# Altium footprint library DieuKhienTuXa.PcbLib: 32 footprints (part 1 of 2)
Each footprint in its own frame and in the unit in brackets; x right, y up, seen from the top. Pads: shape width x height; smd on the part's side, far side on the other; paste and mask are expansions set on the pad; w line width, h text height; cw(c..) or ccw(c..) is an arc to the next point about the centre after c.
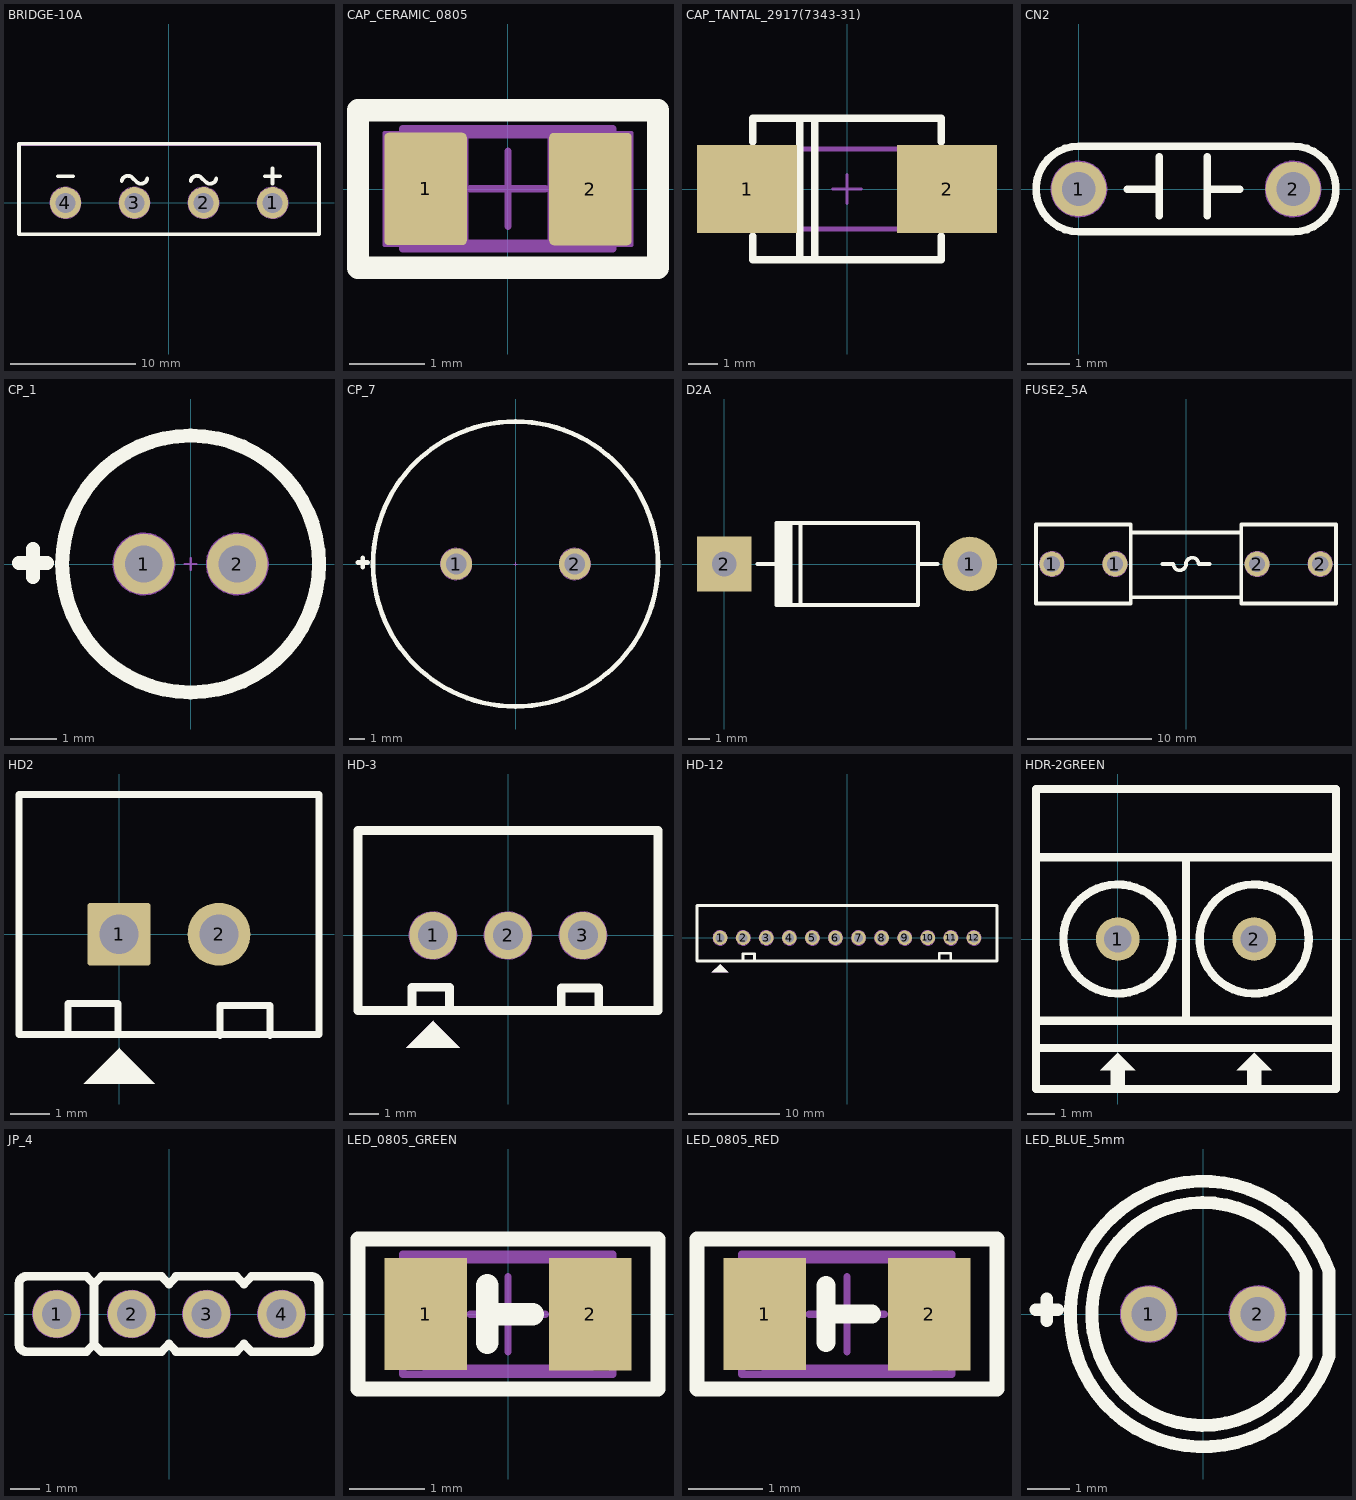
[diagram p0: the footprints below, top view; thin cyan lines are the x and y axes]

## BRIDGE-10A [mm] "KBU1000-KBU1010"
height 19.3
pads (4):
  round 2.5 hole 1.6 unplated mask+0.1: 1(8.25,0) 2(2.75,0) 3(-2.75,0) 4(-8.25,0)
Top Overlay:
  lines w0.3: -8.85,2.125 -7.65,2.125 ; -3.767,1.74 cw(c-3.275,1.65) -2.913,1.995 ; -2.913,1.988 -2.6,1.675 -2.584,1.675 ccw(c-2.222,2.02) -1.731,1.931 ; 1.733,1.74 cw(c2.225,1.65) 2.587,1.995 ; 2.587,1.988 2.9,1.675 2.916,1.675 ccw(c3.278,2.02) 3.769,1.931 ; 7.65,2.125 8.85,2.125 ; 8.25,1.525 8.25,2.725 ; -11.95,-2.5 -11.95,4.7 11.95,4.7 11.95,-2.5 -11.95,-2.5
Mechanical 1:
  circle w0.05: c8.25,0 r1.25
  circle w0.05: c2.75,0 r1.25
  circle w0.05: c-2.75,0 r1.25
  circle w0.05: c-8.25,0 r1.25
  lines w0.05: -8.85,2.125 -7.65,2.125 ; -3.767,1.74 cw(c-3.275,1.65) -2.913,1.995 ; -2.913,1.988 -2.6,1.675 -2.584,1.675 ccw(c-2.222,2.02) -1.731,1.931 ; 1.733,1.74 cw(c2.225,1.65) 2.587,1.995 ; 2.587,1.988 2.9,1.675 2.916,1.675 ccw(c3.278,2.02) 3.769,1.931 ; 7.65,2.125 8.85,2.125 ; 8.25,1.525 8.25,2.725 ; -11.825,-2.425 11.9,-2.425 11.9,4.6 -11.825,4.6 -11.825,-2.425
  text "1" at 8.125,-0.375 h0.76
  text "2" at 2.542,-0.375 h0.76
  text "3" at -3.042,-0.375 h0.76
  text "4" at -8.625,-0.375 h0.76
3D body "User Library-KBU1010.step": height 26.74, standoff -20.96, extent -11.807,-2.4 11.907,4.701

## CAP_CERAMIC_0805 [mm] "Chip Capacitor, Body 2.0x1.3mm, IPC High Density"
height 1.1
pads (2):
  rrect10% 1.1x1.5 smd: 1(-1.1,0) 2(1.1,0)
Top Overlay:
  lines w0.3: -2,-1.05 2,-1.05 2,1.05 -2,1.05 -2,-1.05
Mechanical 1:
  lines w0.05: -2,-1 2,-1 2,1 -2,1 -2,-1 ; -1.65,-0.75 -0.55,-0.75 -0.55,0.75 -1.65,0.75 -1.65,-0.75 ; 0.55,-0.75 1.65,-0.75 1.65,0.75 0.55,0.75 0.55,-0.75
  text "1" at -1.225,-0.375 h0.76
  text "2" at 0.85,-0.4 h0.76
Mechanical 13:
  lines w0.1: -1.1,-0.725 1.1,-0.725 1.1,0.725 -1.1,0.725 -1.1,-0.725
Mechanical 15:
  lines w0.1: -0.5,0 0.5,0 ; 0,-0.5 0,0.5 ; -1.4,-0.8 1.4,-0.8 1.4,0.8 -1.4,0.8 -1.4,-0.8
3D body "User Library-Chip Cap_MLCC_0805 (2012)_A.step": height 0.6, standoff 0, extent -1,-0.622 1,0.628

## CAP_TANTAL_2917(7343-31) [mm] "Chip Resistor, Body 6.0x3.2mm, IPC High Density"
height 0.9
pads (2):
  rect 3.4x3 smd: 1(-3.4,0) 2(3.4,0)
Top Overlay:
  lines w0.254: -3.2,-1.6 -3.2,-2.413 3.2,-2.413 3.2,-1.6 ; -3.2,1.6 -3.2,2.413 3.2,2.413 3.2,1.6 ; -1.6,-2.413 -1.6,2.413 ; -1.1,-2.413 -1.1,2.4
Mechanical 13:
  lines w0.1: -2.575,-1.325 -2.575,1.325 2.575,1.325 2.575,-1.325 -2.575,-1.325
Mechanical 15:
  lines w0.1: -0.5,0 0.5,0 ; 0,-0.5 0,0.5 ; -2.9,-1.4 -2.9,1.4 2.9,1.4 2.9,-1.4 -2.9,-1.4
3D body "User Library-CAP_TANT_7343-31.step": height 3.1, standoff 0, extent -3.8,-2.3 3.8,2.3

## CN2 [mm]
height 5.08
pads (2):
  round 1.3 hole 0.8 mask+0.1: 1(0,0) 2(5.08,0)
Top Overlay:
  lines w0.178: 1.143,0 1.905,0 ; 1.905,-0.635 1.905,0.762 ; 3.048,-0.635 3.048,0.762 ; 3.048,0 3.81,0 ; 0,-1.016 cw(c0,0) 0,1.016 5.08,1.016 cw(c5.08,0) 5.08,-1.016 0,-1.016
Mechanical 1:
  circle w0.05: c0,0 r0.65
  circle w0.05: c5.08,0 r0.65
  lines w0.05: 1.143,0 1.905,0 ; 1.905,-0.635 1.905,0.762 ; 3.048,-0.635 3.048,0.762 ; 3.048,0 3.81,0 ; 0,-1.016 cw(c0,0) 0,1.016 5.08,1.016 cw(c5.08,0) 5.08,-1.016 0,-1.016
  text "2" at 4.825,-0.325 h0.76
  text "1" at -0.125,-0.35 h0.76
3D body "User Library-0,1uF Capacitor 5,08 mm.step": height 6.08, standoff -2.31, extent -0.19,-1.01 5.39,1.2

## CP_1 [mm] "2pin_2mm,DxdxF 5x0.5x2mm"
height 12
pads (2):
  round 1.3 hole 0.8 mask+0.1: 1(-1,0) 2(1,0)
Top Overlay:
  circle w0.3: c0,0 r2.75
  lines w0.3: -3.675,0.025 -3.075,0.025 ; -3.375,-0.275 -3.375,0.325
Mechanical 1:
  circle w0.05: c0,0 r2.75
  circle w0.05: c1,0 r0.65
  circle w0.05: c-1,0 r0.65
  lines w0.05: -3.675,0.025 -3.075,0.025 ; -3.375,-0.275 -3.375,0.325
  text "2" at 0.775,-0.35 h0.76
  text "1" at -1.125,-0.35 h0.76
Mechanical 15:
  lines w0.05: -0.125,0 0.125,0 ; 0,-0.125 0,0.125
3D body "User Library-CAPAE200P550X1200_VERT.step": height 12, standoff -1.78, extent -2.751,-2.75 2.75,2.751

## CP_7 [mm] "2pin_7.5mm,DxdxF 18x0.8x7.5mm"
height 35.5
pads (2):
  round 2 hole 1.3 mask+0.1: 1(-3.75,0) 2(3.75,0)
Top Overlay:
  circle w0.3: c0,0 r9
  lines w0.3: -9.95,0.1 -9.35,0.1 ; -9.65,-0.2 -9.65,0.4
Mechanical 1:
  circle w0.05: c0,0 r9
  circle w0.05: c3.75,0 r1
  circle w0.05: c-3.75,0 r1
  lines w0.05: -9.95,0.1 -9.35,0.1 ; -9.65,-0.2 -9.65,0.4
  text "2" at 3.5,-0.35 h0.76
  text "1" at -3.875,-0.35 h0.76
Mechanical 15:
  lines w0.05: -0.125,0 0.125,0 ; 0,-0.125 0,0.125
3D body "User Library-CE 16x31x7_5.step": height 31, standoff -8, extent -8,-8.05 8,7.95

## D2A [mil] "Diode 2A, W 150mil, L 450mil"
height 100
pads (2):
  round 100 hole 45: 1(450,0)
  rect 100x100 hole 45: 2(0,0)
Top Overlay:
  rectangle: 95,-75 125,75
  lines w7: 61,0 96,0 ; 96,-31 96,0 ; 96,32 96,0 ; 140,-75 140,75 ; 355,0 391,0 ; 96,-75 96,75 355,75 355,-75 96,-75
3D body "SW3DPS-DIODE0_4-DEFAULT.STEP": height 100.5, standoff -100, extent 5,-47 435,54

## FUSE2_5A [mm] "Fuse 2.5A  250V"
height 1
pads (4):
  round 2 hole 1.3: 1(-10.795,0) 1(-5.715,0) 2(5.715,0) 2(10.795,0)
Top Overlay:
  lines w0.3: -4.445,-2.667 4.445,-2.667 ; -4.445,2.54 4.445,2.54 ; -1.905,0 -1.016,0 ccw(c-0.508,0) 0,0 cw(c0.508,0) 1.016,0 1.905,0 ; -12.065,-3.175 -12.065,3.175 -4.445,3.175 -4.445,-3.175 -12.065,-3.175 ; 4.445,-3.175 12.065,-3.175 12.065,3.175 4.445,3.175 4.445,-3.175
Mechanical 1:
  circle w0.05: c-10.795,0 r1
  circle w0.05: c-5.715,0 r1
  circle w0.05: c5.715,0 r1
  circle w0.05: c10.795,0 r1
  lines w0.05: -4.445,-2.667 4.445,-2.667 ; -4.445,2.54 4.445,2.54 ; -12.065,-3.175 -4.445,-3.175 -4.445,3.175 -12.065,3.175 -12.065,-3.175 ; 4.445,-3.175 12.065,-3.175 12.065,3.175 4.445,3.175 4.445,-3.175
3D body "SW3dPS-Fuse Small 1A.STEP": height 9.41, standoff 4.31, extent -9.774,-2.489 9.926,2.611
3D body "SW3dPS-Fuse Leg_2009.STEP": height 9.6, standoff -3.3, extent -11.296,-3.09 -5.2,3.1
3D body "SW3dPS-Fuse Leg_2009.STEP": height 9.6, standoff -3.3, extent 5.304,-3.09 11.4,3.1

## HD2 [mm] "Header_2"
height 5.08
pads (2):
  rrect10% 1.6x1.6 hole 1 mask+0.1: 1(0,0)
  round 1.6 hole 1 mask+0.1: 2(2.54,0)
Top Overlay:
  region: -0.902,-3.797 0.902,-3.797 0.013,-2.908 0.013,-2.883
  lines w0.178: -1.295,-2.515 -1.295,-1.753 -0.025,-1.753 -0.025,-2.515 ; 2.565,-2.565 2.565,-1.803 3.835,-1.803 3.835,-2.565 ; -2.54,-2.54 -2.54,3.556 5.08,3.556 5.08,-2.54 -2.54,-2.54
3D body "User Library-PCB HEADER (JST BxB-PH-K-S (VERTICAL)).STEP": height 6, standoff -1.91, extent -1.8,-1.65 4.2,2.85

## HD-3 [mm] "CON 3"
height 5.08
pads (3):
  round 1.6 hole 1 mask+0.1: 1(-2.54,0) 2(0,0) 3(2.54,0)
Top Overlay:
  region: -3.442,-3.797 -1.638,-3.797 -2.527,-2.908 -2.527,-2.883
  lines w0.3: -3.251,-2.515 -3.251,-1.753 -1.981,-1.753 -1.981,-2.515 ; 1.803,-2.54 1.803,-1.778 3.073,-1.778 3.073,-2.54 ; -5.08,-2.54 -5.08,3.556 5.08,3.556 5.08,0 5.08,-2.54 -5.08,-2.54
Mechanical 1:
  circle w0.05: c2.54,0 r0.8
  circle w0.05: c0,0 r0.8
  circle w0.05: c-2.54,0 r0.8
  region: -3.442,-3.797 -1.638,-3.797 -2.527,-2.908 -2.527,-2.883
  lines w0.05: -3.251,-2.515 -3.251,-1.753 -1.981,-1.753 -1.981,-2.515 ; 1.803,-2.54 1.803,-1.778 3.073,-1.778 3.073,-2.54 ; -5.08,-2.54 5.08,-2.54 5.08,0 5.08,3.556 -5.08,3.556 -5.08,-2.54
  text "3" at 2.2,-0.5 h0.76
  text "1" at -2.7,-0.5 h0.76
3D body "User Library-PW10_3.step": height 7, standoff -3.3, extent -5,-2.286 5,3.414

## HD-12 [mm] "CON12"
height 5.08
pads (12):
  round 1.6 hole 1 mask+0.1: 1(-13.97,0) 2(-11.43,0) 3(-8.89,0) 4(-6.35,0) 5(-3.81,0) 6(-1.27,0) 7(1.27,0) 8(3.81,0) 9(6.35,0) 10(8.89,0) 11(11.43,0) 12(13.97,0)
Top Overlay:
  region: -14.872,-3.797 -13.068,-3.797 -13.957,-2.908 -13.957,-2.883
  lines w0.3: -11.455,-2.515 -11.455,-1.753 -10.185,-1.753 -10.185,-2.515 ; 10.16,-2.464 10.16,-1.702 11.43,-1.702 11.43,-2.464 ; -16.51,-2.54 -16.51,3.556 16.51,3.556 16.51,0 16.51,-2.54 -16.51,-2.54
Mechanical 1:
  circle w0.05: c-13.97,0 r0.8
  circle w0.05: c-11.43,0 r0.8
  circle w0.05: c-8.89,0 r0.8
  circle w0.05: c-6.35,0 r0.8
  circle w0.05: c-3.81,0 r0.8
  circle w0.05: c-1.27,0 r0.8
  circle w0.05: c1.27,0 r0.8
  circle w0.05: c3.81,0 r0.8
  circle w0.05: c6.35,0 r0.8
  circle w0.05: c8.89,0 r0.8
  circle w0.05: c11.43,0 r0.8
  circle w0.05: c13.97,0 r0.8
  region: -14.872,-3.797 -13.068,-3.797 -13.957,-2.908 -13.957,-2.883
  lines w0.05: -11.455,-2.515 -11.455,-1.753 -10.185,-1.753 -10.185,-2.515 ; 10.16,-2.464 10.16,-1.702 11.43,-1.702 11.43,-2.464 ; -16.51,-2.54 -16.51,3.556 16.51,3.556 16.51,0 16.51,-2.54 -16.51,-2.54
  text "1" at -14.1,-0.5 h0.76
  text "12" at 13.2,-0.5 h0.76
3D body "User Library-PW10_12.step": height 7, standoff -3.3, extent -16.3,-2.286 16.3,3.414

## HDR-2GREEN [mm] "10A PIN TO PIN 5mm 11mmx11mm"
pads (2):
  round 1.6 hole 1 mask+0.1: 1(0,0) 2(5,0)
Top Overlay:
  circle w0.3: c5,0 r2
  circle w0.3: c0,0 r2
  region: 5,-4.171 4.365,-4.806 4.746,-4.806 4.746,-5.441 5.254,-5.441 5.254,-4.806 5.635,-4.806
  region: 0,-4.171 -0.635,-4.806 -0.254,-4.806 -0.254,-5.441 0.254,-5.441 0.254,-4.806 0.635,-4.806
  lines w0.3: -3,-4 8,-4 ; -3,-3 8,-3 ; -3,3 8,3 ; 2.5,-3 2.5,3 ; -3,-5.5 -3,5.5 8,5.5 8,-5.5 -3,-5.5
3D body "STB01.step": height 12.5, standoff -4.4, extent -3.14,-4.047 2.54,4.953
3D body "STB01.step": height 12.5, standoff -4.4, extent 1.94,-4.047 7.62,4.953

## JP_4 [mm] "Connector DIP, 4Pin_2.54mm"
height 5
pads (4):
  round 1.6 hole 1 mask+0.1: 1(-3.81,0) 2(-1.27,0) 3(1.27,0) 4(3.81,0)
Top Overlay:
  lines w0.3: -2.794,-1.28 -2.794,-1.27 ; -2.794,1.27 -2.54,1.016 ; -2.794,1.28 -4.84,1.28 ccw(c-4.82,1.02) -5.08,1 -5.08,-1 ccw(c-4.82,-1.02) -4.84,-1.28 -2.804,-1.28 -2.794,-1.27 ; -2.286,1.27 -2.54,1.016 ; -2.286,1.28 -0.254,1.28 -0.254,1.27 0,1.016 0.254,1.27 ; 0.24,-1.28 2.276,-1.28 2.286,-1.27 ; 0.24,1.28 2.286,1.28 ; 0.254,-1.27 0,-1.016 -0.254,-1.27 -0.254,-1.28 -2.286,-1.28 -2.54,-1.026 ; 2.286,-1.28 2.286,-1.27 ; 2.286,1.27 2.54,1.016 2.794,1.27 ; 2.794,1.28 4.826,1.28 4.826,1.27 ; 4.8,-1.28 ccw(c4.8,-1) 5.08,-1 5.08,1 ccw(c4.8,1) 4.8,1.28 ; 4.826,-1.27 4.826,-1.28 2.794,-1.28 2.54,-1.026 2.54,-1.016 2.286,-1.27 ; -2.794,-1.27 -2.54,-1.016 -2.54,-1.026 ; -2.54,-1.026 -2.54,1.016
Mechanical 1:
  circle w0.05: c-3.81,0 r0.8
  circle w0.05: c-3.81,0 r0.8
  circle w0.05: c-1.27,0 r0.8
  circle w0.05: c1.27,0 r0.8
  circle w0.05: c3.81,0 r0.8
  lines w0.05: -2.794,-1.28 -2.794,-1.27 ; -2.794,1.27 -2.54,1.016 -2.286,1.27 ; -2.794,1.28 -4.84,1.28 ccw(c-4.82,1.02) -5.08,1 -5.08,-1 ccw(c-4.82,-1.02) -4.84,-1.28 -2.804,-1.28 -2.794,-1.27 ; -2.286,1.28 -0.254,1.28 -0.254,1.27 0,1.016 0.254,1.27 ; 0.24,-1.28 2.276,-1.28 2.286,-1.27 ; 0.24,1.28 2.286,1.28 ; 0.254,-1.27 0,-1.016 -0.254,-1.27 -0.254,-1.28 -2.286,-1.28 -2.54,-1.026 -2.54,-1.016 -2.794,-1.27 ; 2.286,-1.28 2.286,-1.27 ; 2.286,1.27 2.54,1.016 2.794,1.27 ; 2.54,-1.026 2.794,-1.28 4.826,-1.28 4.826,-1.27 ; 2.54,-1.016 2.286,-1.27 ; 2.794,1.28 4.826,1.28 4.826,1.27 ; 4.8,-1.28 ccw(c4.8,-1) 5.08,-1 5.08,1 ccw(c4.8,1) 4.8,1.28
  text "4" at 3.556,-0.254 h0.76
  text "1" at -4.064,-0.254 h0.76
3D body "Header 1x4.STEP": height 10.1, standoff -1.5, extent -5.08,-1.27 5.08,1.27

## LED_0805_GREEN [mm] "Chip Resistor; Body 2.0 x 1.3 mm (LxW typ)"
height 2.54
pads (2):
  rect 1.1x1.5 smd: 1(-1.1,0) 2(1.1,0)
Top Overlay:
  lines w0.2: -2,-1 -2,1 2,1 2,-1 -2,-1
  lines w0.3: -0.279,-0.381 -0.279,0.381 ; -0.279,0 0.33,0
Mechanical 13:
  lines w0.1: -1.1,-0.725 1.1,-0.725 1.1,0.725 -1.1,0.725 -1.1,-0.725
Mechanical 15:
  lines w0.1: -0.5,0 0.5,0 ; 0,-0.5 0,0.5 ; -1.4,-0.8 1.4,-0.8 1.4,0.8 -1.4,0.8 -1.4,-0.8
3D body "User Library-led_0805-green.step": height 1.1, standoff 0, extent -1.01,-0.625 1.01,0.625

## LED_0805_RED [mm] "Chip Resistor; Body 2.0 x 1.3 mm (LxW typ)"
height 2.54
pads (2):
  rect 1.1x1.5 smd: 1(-12.243,-2.667) 2(-10.043,-2.667)
Top Overlay:
  lines w0.2: -13.143,-3.667 -9.143,-3.667 -9.143,-1.667 -13.143,-1.667 -13.143,-3.667
  lines w0.25: -11.422,-3.048 -11.422,-2.286 ; -11.422,-2.667 -10.812,-2.667
Mechanical 13:
  lines w0.1: -12.243,-3.392 -12.243,-1.942 -10.043,-1.942 -10.043,-3.392 -12.243,-3.392
Mechanical 15:
  lines w0.1: -11.643,-2.667 -10.643,-2.667 ; -11.143,-3.167 -11.143,-2.167 ; -12.543,-3.467 -12.543,-1.867 -9.743,-1.867 -9.743,-3.467 -12.543,-3.467
3D body "User Library-led_0805-red.step": height 1.1, standoff 0, extent -12.152,-3.292 -10.132,-2.042

## LED_BLUE_5mm [mm] "LED, 2 pin, D=5mm, Blue"
height 10.4
pads (2):
  round 1.3 hole 0.8 mask+0.1: 1(-1.27,0) 2(1.27,0)
Top Overlay:
  lines w0.3: -3.9,0.1 -3.4,0.1 ; -3.65,-0.15 -3.65,0.35 ; 2.397,-1.007 cw(c0,0) 2.4,1 2.4,-1.004 2.397,-1.007 ; 2.933,-0.993 2.936,-0.995 cw(c0,0) 2.933,1.003 2.933,-0.993
Mechanical 1:
  circle w0.05: c-1.27,0 r0.65
  circle w0.05: c1.27,0 r0.65
  lines w0.05: -3.9,0.1 -3.4,0.1 ; -3.65,-0.15 -3.65,0.35 ; 2.397,-1.007 cw(c0,0) 2.4,1 2.4,-1.004 2.397,-1.007 ; 2.933,-0.993 2.933,1.003 ccw(c0,0) 2.936,-0.995 2.933,-0.993
  text "1" at -1.395,-0.35 h0.76
  text "2" at 1.055,-0.35 h0.76
3D body "User Library-LEDd5B.STEP": height 12.31, standoff -2.49, extent -3.02,-2.92 2.4,3.1